# Altium schematic symbol library LT6350.SchLib: 1 symbol
Pins are listed as number, name and electrical type; pins without a type are passive.

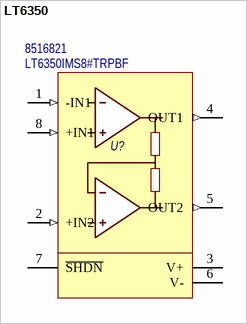
[diagram p0: symbol LT6350]

## LT6350
designator U?  Supplier Part Number 1: LT6350IMS8#TRPBF  Supplier Part Number 2: 8516821  (hidden comment: LT6350)
Single-Ended to Differential Converter/ADC Driver, Rail-to-Rail; Наименование: LT6350CMS8; Потребление, Вт: 0,05; Назначение: Single-Ended to Differential Converter/ADC Driver; ComponentLink1Description: DataSheet; ComponentLink1URL: https://www.analog.com/media/en/technical-documentation/data-sheets/6350fc.pdf; Supplier 1: Arrow Electronics; Supplier 2: RSComponents
footprint MSOP-8
pins: 1 -IN1 (in), 2 +IN2 (in), 3 V+ (power), 4 OUT1 (out), 5 OUT2 (out), 6 V- (power), 7 ~{SHDN} (power), 8 +IN1 (in)